# Altium footprint library Miscellaneous.PcbLib: 70 footprints (part 4 of 5)
Each footprint in its own frame and in the unit in brackets; x right, y up, seen from the top. Pads: shape width x height; smd on the part's side, far side on the other; paste and mask are expansions set on the pad; w line width, h text height; cw(c..) or ccw(c..) is an arc to the next point about the centre after c.
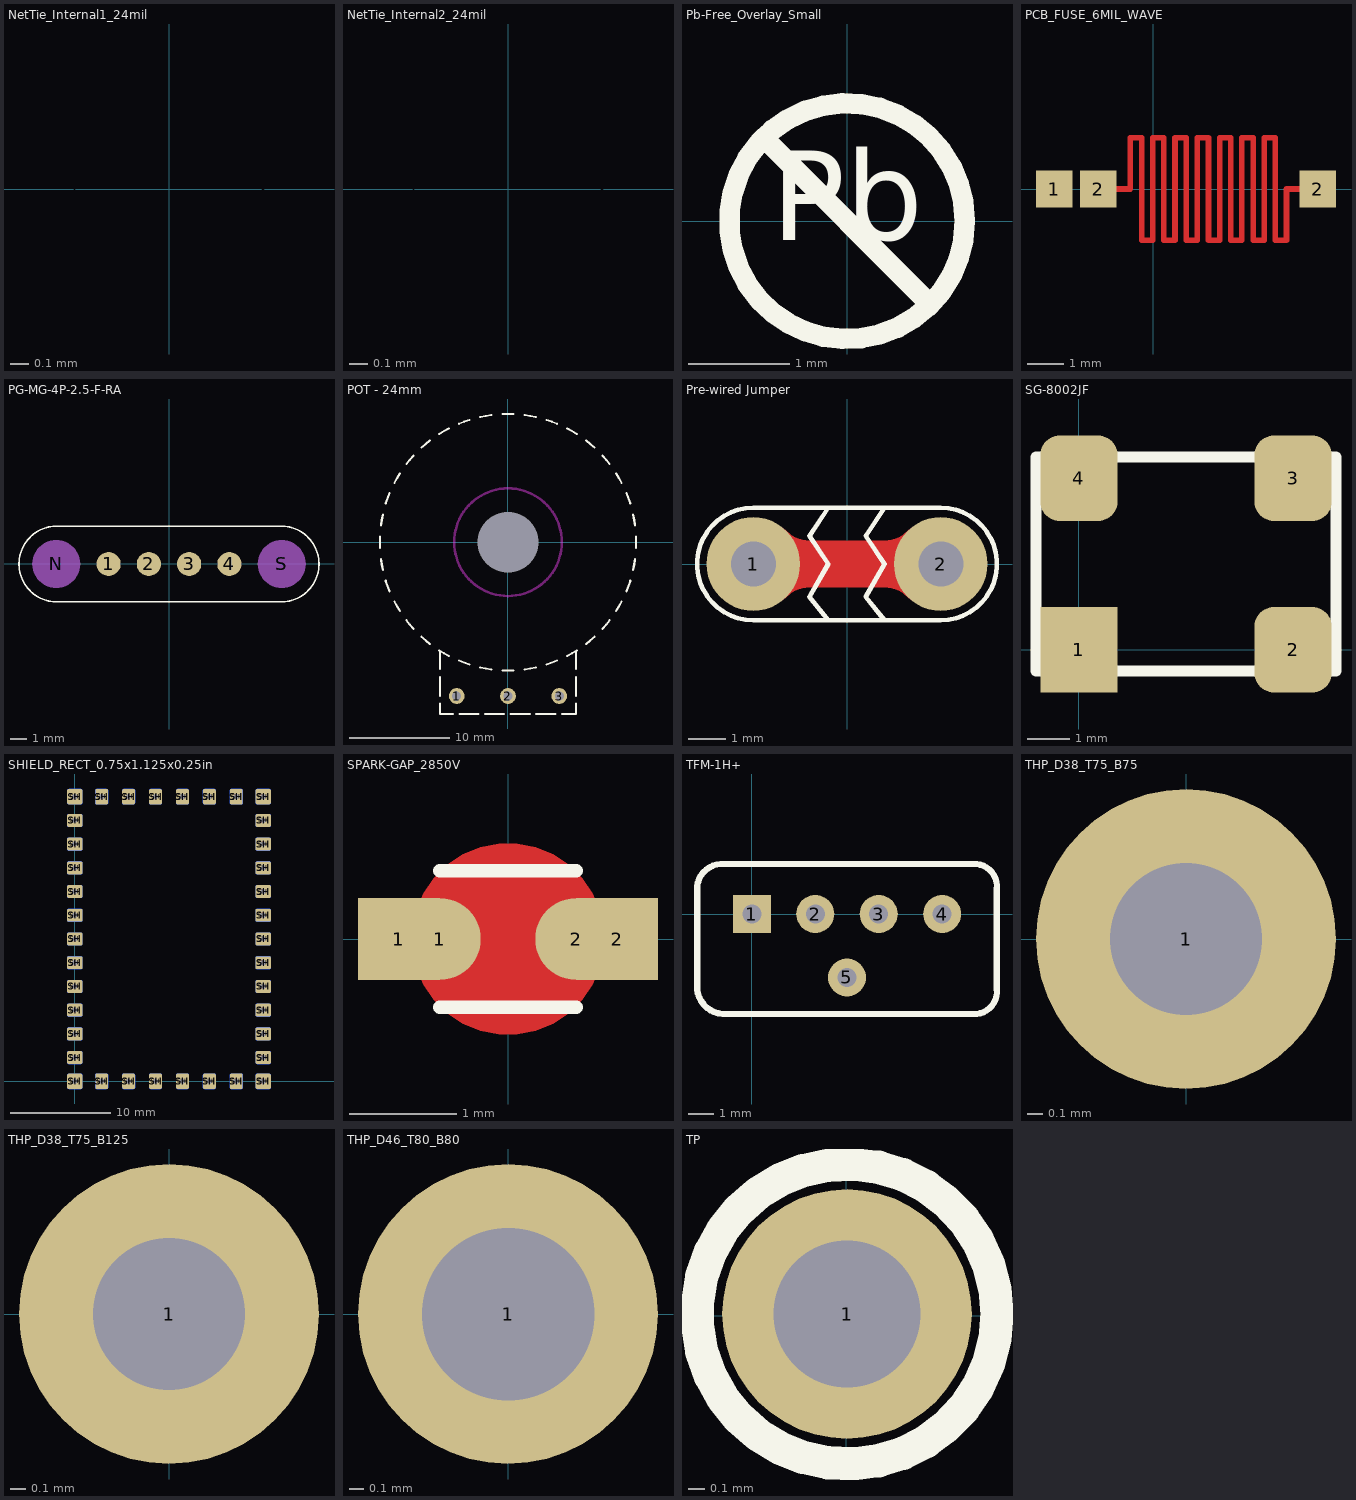
[diagram p3: the footprints below, top view; thin cyan lines are the x and y axes]

## NetTie_Internal1_24mil [mil]
pads (2):
  round 24 on Mid1: 1(-20,0) 2(20,0)
Mid-Layer 1:
  lines w24: -20,0 20,0

## NetTie_Internal2_24mil [mil]
pads (2):
  round 24 on Mid2: 1(-20,0) 2(20,0)
Mid-Layer 2:
  lines w24: -20,0 20,0

## Pb-Free_Overlay_Small [mil]
height 161.42
Top Overlay:
  circle w8: c0,0 r46
  lines w8: -32.53,32.53 32.53,-32.53
  text "Pb" at -29.6,-18.9 h60

## PCB_FUSE_6MIL_WAVE [mm] "PCB Fuse, 6 mils wide, fuse time depends on substrate and current"
pads (3):
  rrect1% 1x1 smd paste-2: 1(-2.7,0) 2(-1.5,0) 2(4.5,0)
Top Layer:
  lines w0.152: -1,0 -0.619,0 -0.619,1.4 -0.314,1.4 -0.314,-1.4 -0.01,-1.4 -0.01,1.4 0.295,1.4 0.295,-1.4 0.6,-1.4 0.6,1.4 0.905,1.4 0.905,-1.4 1.21,-1.4 1.21,1.4 1.514,1.4 1.514,-1.4 1.819,-1.4 1.819,1.4 2.124,1.4 2.124,-1.4 2.429,-1.4 2.429,1.4 2.734,1.4 2.734,-1.4 3.038,-1.4 3.038,1.4 3.343,1.4 3.343,-1.4 3.648,-1.4 3.648,0 4,0
3D body: height 0.05, standoff 0, extent -3.2,-0.5 5,0.5

## PG-MG-4P-2.5-F-RA [mm]
pads (6):
  round 1.5 smd: 1(-3.75,0) 2(-1.25,0) 3(1.25,0) 4(3.75,0)
  round 3 on Mech15: N(-7,0) S(7,0)
Top Overlay:
  lines w0.1: -6.955,-2.355 cw(c-6.955,0) -6.955,2.355 6.955,2.355 cw(c6.955,0) 6.955,-2.355 -6.955,-2.355

## POT - 24mm [mil]
pads (4):
  round 62 hole 35: 1(-200,-600) 2(0,-600) 3(200,-600)
  round 50 hole 236.22 unplated: MNT(0,0)
Top Overlay:
  lines w8: -499.52,-21.81 cw(c0,0) -499.52,21.81 ; -495.72,-65.26 ccw(c0,0) -488.15,-108.22 ; -495.72,65.26 cw(c0,0) -488.15,108.22 ; -476.86,-150.35 ccw(c0,0) -461.94,-191.34 ; -476.86,150.35 cw(c0,0) -461.94,191.34 ; -443.51,-230.87 ccw(c0,0) -421.7,-268.65 ; -443.51,230.87 cw(c0,0) -421.7,268.65 ; -396.68,-304.38 ccw(c0,0) -368.64,-337.8 ; -396.68,304.38 cw(c0,0) -368.64,337.8 ; -337.8,-368.64 ccw(c0,0) -304.38,-396.68 ; -337.8,368.64 cw(c0,0) -304.38,396.68 ; -268.65,-421.7 ccw(c0,0) -230.87,-443.51 ; -268.65,421.7 cw(c0,0) -230.87,443.51 ; -265,-630 -265,-670 -215,-670 ; -265,-600 -265,-525 ; -265,-495 -265,-425 ; -191.34,-461.94 ccw(c0,0) -150.35,-476.86 ; -191.34,461.94 cw(c0,0) -150.35,476.86 ; -190,-670 -115,-670 ; -108.22,-488.15 ccw(c0,0) -65.26,-495.72 ; -108.22,488.15 cw(c0,0) -65.26,495.72 ; -90,-670 -15,-670 ; -21.81,-499.52 ccw(c0,0) 21.81,-499.52 ; -21.81,499.52 cw(c0,0) 21.81,499.52 ; 10,-670 85,-670 ; 65.26,-495.72 ccw(c0,0) 108.22,-488.15 ; 65.26,495.72 cw(c0,0) 108.22,488.15 ; 110,-670 185,-670 ; 150.35,-476.86 ccw(c0,0) 191.34,-461.94 ; 150.35,476.86 cw(c0,0) 191.34,461.94 ; 210,-670 265,-670 265,-630 ; 230.87,-443.51 ccw(c0,0) 268.65,-421.7 ; 230.87,443.51 cw(c0,0) 268.65,421.7 ; 265,-600 265,-525 ; 265,-495 265,-425 ; 304.38,-396.68 ccw(c0,0) 337.8,-368.64 ; 304.38,396.68 cw(c0,0) 337.8,368.64 ; 368.64,-337.8 ccw(c0,0) 396.68,-304.38 ; 368.64,337.8 cw(c0,0) 396.68,304.38 ; 421.7,-268.65 ccw(c0,0) 443.51,-230.87 ; 421.7,268.65 cw(c0,0) 443.51,230.87 ; 461.94,-191.34 ccw(c0,0) 476.86,-150.35 ; 461.94,191.34 cw(c0,0) 476.86,150.35 ; 488.15,-108.22 ccw(c0,0) 495.72,-65.26 ; 488.15,108.22 cw(c0,0) 495.72,65.26 ; 499.52,-21.81 ccw(c0,0) 499.52,21.81
Keep-Out Layer:
  circle w10: c0,0 r210

## Pre-wired Jumper [mil]
pads (2):
  round 100 hole 48: 1(-100,0) 2(100,0)
Top Layer:
  lines w50: -100,0 100,0 ; -82.32,-17.68 cw(c-39.64,-60.36) -39.64,0 cw(c-39.64,60.36) -82.32,17.68 ; 82.32,-17.68 ccw(c39.64,-60.36) 39.64,0 ccw(c39.64,60.36) 82.32,17.68
Top Overlay:
  lines w5: -20,-60 -40,-35 -20,0 -40,30 -20,60 ; 40,-60 20,-35 40,0 20,30 40,60 ; -100,-60 cw(c-100,0) -100,60 100,60 cw(c100,0) 100,-60 -100,-60

## SG-8002JF [mm] "SOJ 4pin 7.1x5.1x1.5 mm"
height 1.5
pads (4):
  rect 1.8x2 smd: 1(0,0)
  rrect50% 1.8x2 smd: 2(5,0) 3(5,4) 4(0,4)
Top Overlay:
  lines w0.254: -1,-0.5 -1,4.5 6,4.5 6,-0.5 -1,-0.5
3D body "User Library-VX3-Quartz-Oscillator.step": height 1.6, standoff 0, extent -1.25,-0.5 5.75,4.5

## SHIELD_RECT_0.75x1.125x0.25in [mil] "Fotofab standard RF shield, 1.125\"x0.75\", 0.25\" tall"
height 250
pads (114):
  round 40 hole 20: SH(0,0) SH(0,92.5) SH(0,185) SH(0,277.5) SH(0,370) SH(0,462.5) SH(0,555) SH(0,647.5) SH(0,740) SH(0,832.5) SH(0,925) SH(0,1017.5) SH(0,1110) SH(105,0) SH(105,1110) SH(210,0) SH(210,1110) SH(315,0) SH(315,1110) SH(420,0) SH(420,1110) SH(525,0) SH(525,1110) SH(630,0) SH(630,1110) SH(735,0) SH(735,92.5) SH(735,185) SH(735,277.5) SH(735,370) SH(735,462.5) SH(735,555) SH(735,647.5) SH(735,740) SH(735,832.5) SH(735,925) SH(735,1017.5) SH(735,1110)
  rrect25% 60x60 smd: SH(0,0) SH(0,1110) SH(735,0) SH(735,1110)
  rrect25% 60x60 smd far side: SH(0,0) SH(0,1110) SH(735,0) SH(735,1110)
  rrect25% 60x50 smd: SH(0,92.5) SH(0,185) SH(0,277.5) SH(0,370) SH(0,462.5) SH(0,555) SH(0,647.5) SH(0,740) SH(0,832.5) SH(0,925) SH(0,1017.5) SH(735,92.5) SH(735,185) SH(735,277.5) SH(735,370) SH(735,462.5) SH(735,555) SH(735,647.5) SH(735,740) SH(735,832.5) SH(735,925) SH(735,1017.5)
  rrect25% 60x50 smd far side: SH(0,92.5) SH(0,185) SH(0,277.5) SH(0,370) SH(0,462.5) SH(0,555) SH(0,647.5) SH(0,740) SH(0,832.5) SH(0,925) SH(0,1017.5) SH(735,92.5) SH(735,185) SH(735,277.5) SH(735,370) SH(735,462.5) SH(735,555) SH(735,647.5) SH(735,740) SH(735,832.5) SH(735,925) SH(735,1017.5)
  rrect25% 50x60 smd: SH(105,0) SH(105,1110) SH(210,0) SH(210,1110) SH(315,0) SH(315,1110) SH(420,0) SH(420,1110) SH(525,0) SH(525,1110) SH(630,0) SH(630,1110)
  rrect25% 50x60 smd far side: SH(105,0) SH(105,1110) SH(210,0) SH(210,1110) SH(315,0) SH(315,1110) SH(420,0) SH(420,1110) SH(525,0) SH(525,1110) SH(630,0) SH(630,1110)
3D body "Shield box 0.75x1.125x0.25 inch.stp": height 250, standoff 0, extent -7.49,-7.49 742.51,1117.5

## SP-2004Y [mil]
3D body "SP-2004Y.stp": height 175.2, standoff 19.68, extent -393.69,-393.69 393.71,393.71

## SPARK-GAP_2850V [mil] "Spark gap, voltage approx 2850 per (3000 pd + 1350)"
pads (4):
  rrect1% 30x30 smd paste-20 mask-20: 1(-40,0) 2(40,0)
  round 30 smd paste-20 mask+5: 1(-25,0) 2(25,0)
Top Layer:
  pour cut-out: 0,35 3.45,35 10.21,33.65 16.58,31.02 22.31,27.19 27.19,22.31 31.02,16.58 33.65,10.21 35,3.45 35,0 35,-3.45 33.65,-10.21 31.02,-16.58 27.19,-22.31 22.31,-27.19 16.58,-31.02 10.21,-33.65 3.45,-35 0,-35 -3.45,-35 -10.21,-33.65 -16.58,-31.02 -22.31,-27.19 -27.19,-22.31 -31.02,-16.58 -33.65,-10.21 -35,-3.45 -35,0 -35,3.45 -33.65,10.21 -31.02,16.58 -27.19,22.31 -22.31,27.19 -16.58,31.02 -10.21,33.65 -3.45,35
Top Overlay:
  lines w5: -25,-25 25,-25 ; -25,25 25,25
Top Solder:
  rectangle: -25,-20 25,20

## TFM-1H+ [mil] "Frequency Mixer"
height 196.85
pads (5):
  rect 60x60 hole 30: 1(0,0)
  round 60 hole 30: 2(100,0) 3(200,0) 4(300,0) 5(150,-100)
Top Overlay:
  lines w10: -86.22,-118.11 ccw(c-43.11,-114.37) -39.37,-157.48 354.33,-157.48 ccw(c350.59,-121.85) 386.22,-118.11 386.22,39.37 ccw(c350.59,43.11) 354.33,78.74 -43.11,78.74 ccw(c-46.85,39.37) -86.22,43.11 -86.22,-118.11

## THP_D38_T75_B75 [mil] "Thru-Hole Pad with 75mil top and 75mil bottom annular rings"
height 100
pads (1):
  round 75 hole 38: 1(0,0)

## THP_D38_T75_B125 [mil] "Thru-Hole Pad with 75mil top and 125mil bottom annular rings"
pads (1):
  round 75 / inner round 75 / far side round 125 hole 38: 1(0,0)

## THP_D46_T80_B80 [mil]
height 700.79
pads (1):
  round 80 hole 46: 1(0,0)

## TP [mil]
pads (1):
  round 60 hole 35.43: 1(0.14,0.45)
Top Overlay:
  circle w8: c0.14,0.45 r36.06
3D body: height 0, standoff 0, extent -35.89,-35.59 36.18,36.48